# EAGLE library part ESD_SRV05-4 (library ts_keyboards)
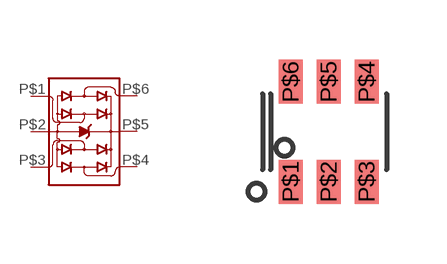
[diagram p1: symbol with the pads of SOT-23-6L; footprint SOT-23-6L]

Designator prefix -

## ESD_SRV05-4  [SOT-23-6L]
P$1  P$1
P$2  P$2
P$3  P$3
P$4  P$4
P$5  P$5
P$6  P$6

## Footprint SOT-23-6L (pad centres in mm)
smd 0.6 x 1.1: P$1 -0.95,-1.25; P$2 0,-1.25; P$3 0.95,-1.25; P$4 0.95,1.25; P$5 0,1.25; P$6 -0.95,1.25